# Altium schematic symbol library WL-SBSW.SchLib: 2 symbols
Pins are listed as number, name and electrical type; pins without a type are passive.

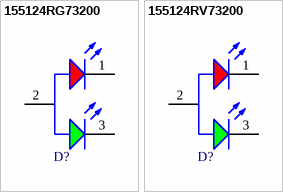
[diagram p0: symbols 155124RG73200 to 155124RV73200]

## 155124RG73200
designator D?, comment Red & Green, 120°  (value not drawn)
WL-SBSW SMT Bi-color Side View Waterclear, size 1204, Red & Green, 120°; Manufacturer Part Number: 155124RG73200; Manufacturer: Wurth Elektronik; Case/Size Code: 1204; Chip Technology: AlInGaP + InGaN; Dominant Wavelength (Green): 525nm; Dominant Wavelength (Red): 624nm; Forward Voltage (Green): 3.3V; Forward Voltage (Red): 2V; Luminous Intensity (Green): 160mcd; Luminous Intensity (Red): 60mcd; Peak Wavelength (Green): 520nm; Peak Wavelength (Red): 632nm; Category: Signal LEDs; Match Code: WL-SBSW; ComponentLink1Description: Website Link; ComponentLink1URL: https://www.we-online.com/redexpert/article/155124RG73200?ad; ComponentLink2Description: Datasheet Link; ComponentLink2URL: https://www.we-online.com/redexpert/spec/155124RG73200?ad; Mount: Surface Mount; Operating Temperature Max: 85°C; Operating Temperature Min: -40°C; Packaging: Tape and Reel; Length: 3.2mm; Width: 1.5mm; Height: 1mm; Emitting Color: Red & Green; Viewing Angle: 120°
footprint WL-SBSW_1204
simulation model 1204_155124RG73200
pins: 1 K, 2 A, 3 K

## 155124RV73200
designator D?, comment Red & Bright Green, 120°  (value not drawn)
WL-SBSW SMT Bi-color Side View Waterclear, size 1204, Red & Bright Green, 120°; Manufacturer Part Number: 155124RV73200; Manufacturer: Wurth Elektronik; Case/Size Code: 1204; Chip Technology: AlInGaP; Dominant Wavelength (Bright Green): 571nm; Dominant Wavelength (Red): 624nm; Forward Voltage (Bright Green): 2.1V; Forward Voltage (Red): 2V; Luminous Intensity (Bright Green): 30mcd; Luminous Intensity (Red): 60mcd; Peak Wavelength (Bright Green): 573nm; Peak Wavelength (Red): 632nm; Category: Signal LEDs; Match Code: WL-SBSW; ComponentLink1Description: Website Link; ComponentLink1URL: https://www.we-online.com/redexpert/article/155124RV73200?ad; ComponentLink2Description: Datasheet Link; ComponentLink2URL: https://www.we-online.com/redexpert/spec/155124RV73200?ad; Mount: Surface Mount; Operating Temperature Max: 85°C; Operating Temperature Min: -40°C; Packaging: Tape and Reel; Length: 3.2mm; Width: 1.5mm; Height: 1mm; Emitting Color: Red & Bright Green; Viewing Angle: 120°
footprint WL-SBSW_1204
simulation model 1204_155124RV73200
pins: 1 K, 2 A, 3 K